# EAGLE library part MS5611 (library SMARTBALL_v1)
MS5611 barometric sensor
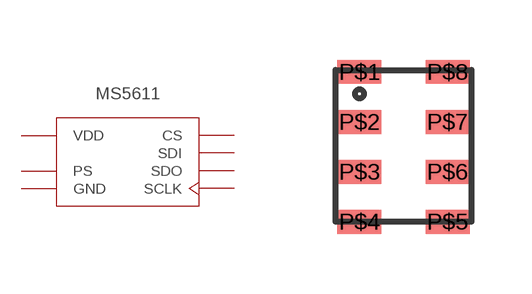
[diagram p0: symbol with the pads of MS5611-QFN; footprint MS5611-QFN]

Designator prefix -

## MS5611  [MS5611-QFN]
P$1  VDD  pwr
P$2  PS  in
P$3  GND  pwr
P$4  CS
P$5  CS
P$6  SDO  out
P$7  SDI  in
P$8  SCLK  in

## Footprint MS5611-QFN (pad centres in mm)
MS5611 barometric sensor QFN Package
smd 1.1 x 0.6: P$1 -2.2,3.75; P$2 -2.2,2.5; P$3 -2.2,1.25; P$4 -2.2,0; P$5 0,0; P$6 0,1.25; P$7 0,2.5; P$8 0,3.75